# EAGLE library part MAX6675 (library magic)
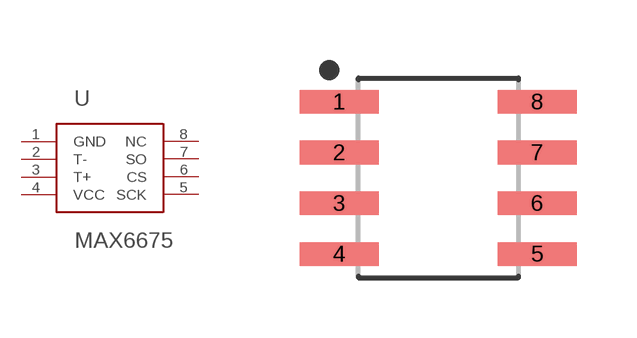
[diagram p1: symbol with the pads of MAX6675; footprint MAX6675]

Designator prefix -

## MAX6675  [MAX6675]
1  GND
2  T-
3  T+
4  VCC
5  SCK
6  CS
7  SO
8  NC

## Footprint MAX6675 (pad centres in mm)
8-SOIC, 1.27 mm pitch, 6.00 mm span, 4.90 X 3.90 X 1.75 mm body 8-pin SOIC package with 1.27 mm pitch, 6.00 mm span with body size 4.90 X 3.90 X 1.75 mm
smd 1.968 x 0.589: 1 -2.473,1.905; 2 -2.473,0.635; 3 -2.473,-0.635; 4 -2.473,-1.905; 5 2.473,-1.905; 6 2.473,-0.635; 7 2.473,0.635; 8 2.473,1.905